# Altium schematic symbol library TLW-103-05-G-S.SchLib: 1 symbol
Pins are listed as number, name and electrical type; pins without a type are passive.

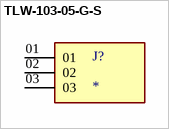
[diagram p0: symbol TLW-103-05-G-S]

## TLW-103-05-G-S
designator J?
MP: TLW-103-05-G-S; Value: *; Package: None; Availability: Unavailable; Price: None
footprint SAMTEC_TLW-103-05-G-S
pins: 01, 02, 03